# Altium integrated library Zilog Z8 Encore.IntLib: 188 symbols (part 5 of 5)
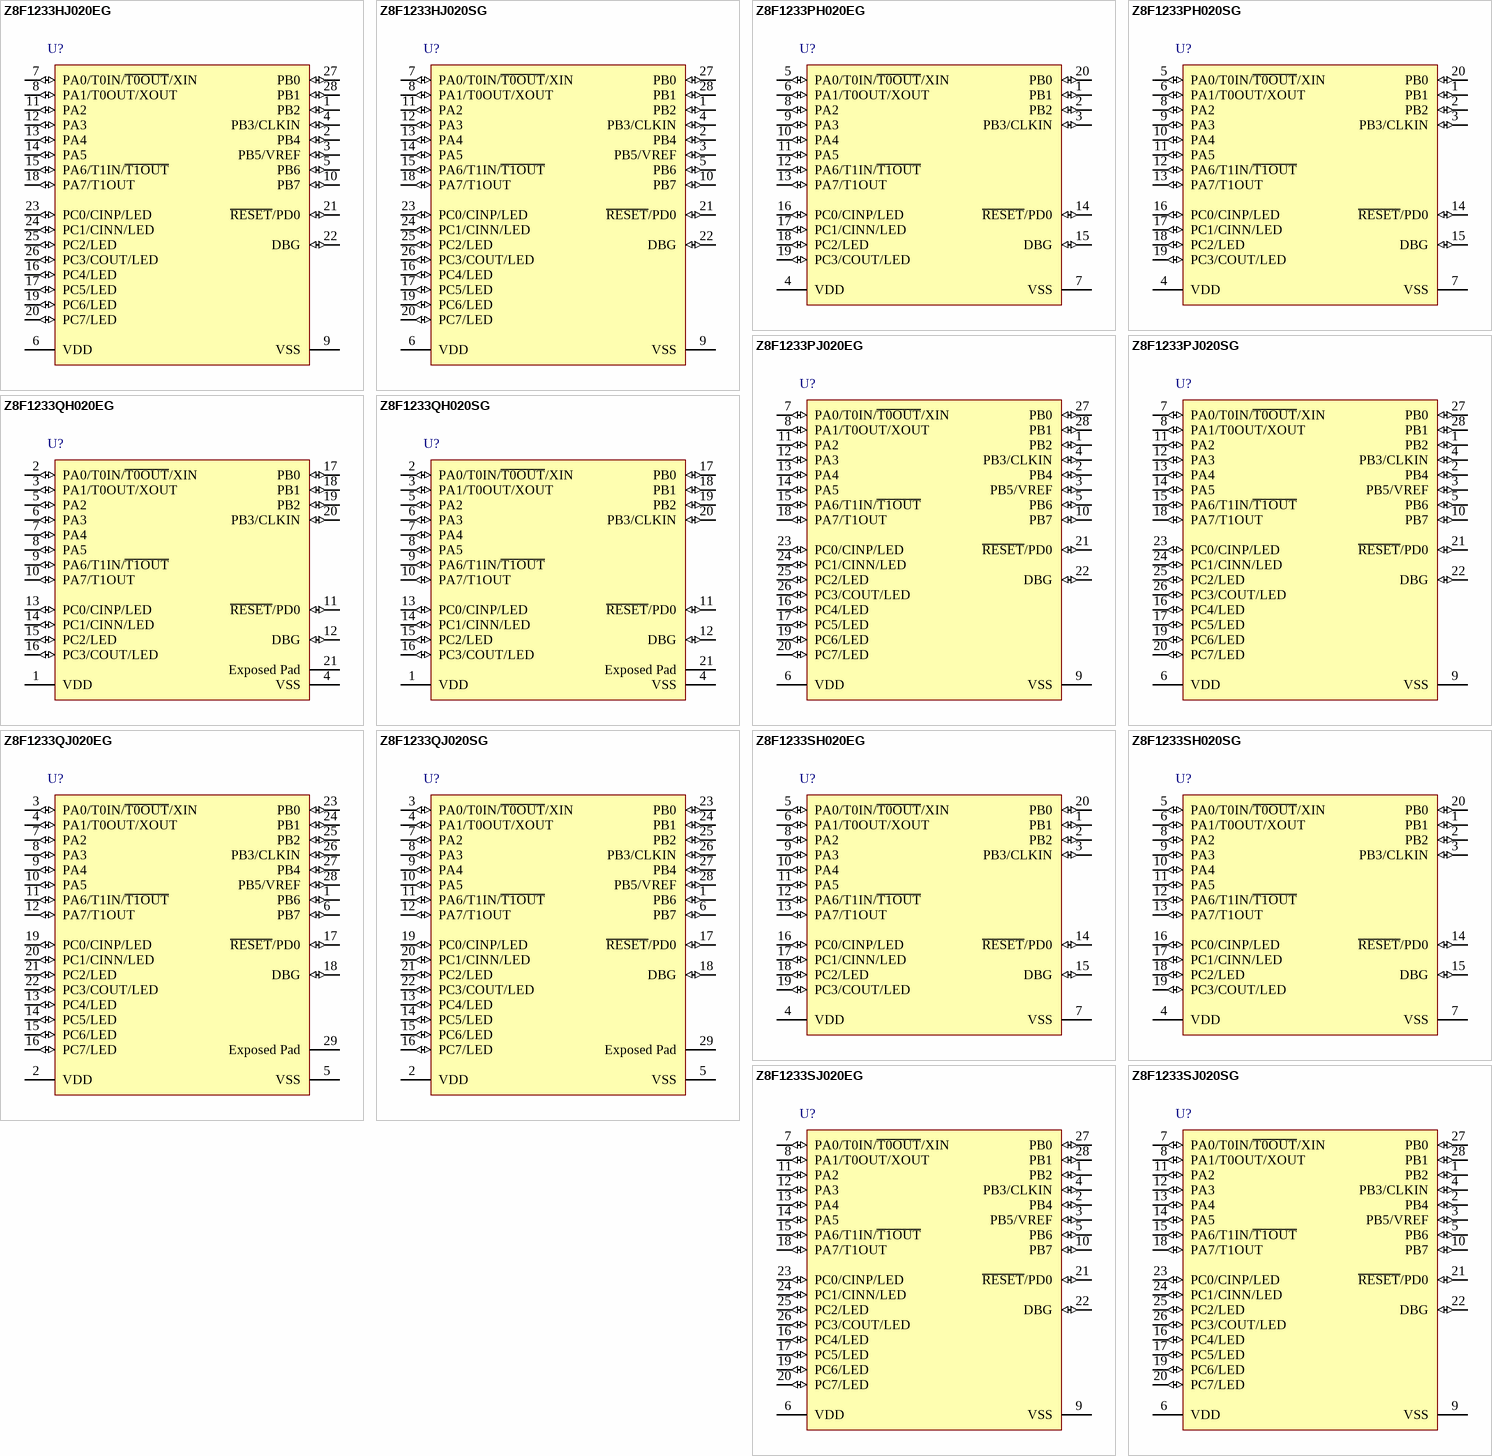
[diagram p15: symbols Z8F1233HJ020EG to Z8F1233SJ020SG]

## Z8F1233SH020EG
designator U?
Z8 Encore, F0830 Series, 12KB Flash RAM, 256B register RAM, 20-Pin SOIC, -40°C to 105°C, Pb-Free; DatasheetVersion: rev11, Dec-2007; PackageVersion: 1/12/2007; PackageReference: SOIC20; PackageDescription: 20-Pin Small Outline Integrated Circuit 1.27 mm Pitch; ComponentLink1Description: Manufacturer URL; ComponentLink1URL: http://www.zilog.com/
footprint SOIC20_N (SOIC, 20-Leads, Body 12.8x7.5mm, Pitch 1.27mm, IPC Medium Density)
footprint SOIC20_L (SOIC, 20-Leads, Body 12.8x7.5mm, Pitch 1.27mm, IPC High Density)
footprint SOIC20_M (SOIC, 20-Leads, Body 12.8x7.5mm, Pitch 1.27mm, IPC Low Density)
pins: 1 PB1 (io), 2 PB2 (io), 3 PB3/CLKIN (io), 4 VDD (power), 5 PA0/T0IN/~{T0OUT}/XIN (io), 6 PA1/T0OUT/XOUT (io), 7 VSS (power), 8 PA2 (io), 9 PA3 (io), 10 PA4 (io), 11 PA5 (io), 12 PA6/T1IN/~{T1OUT} (io), 13 PA7/T1OUT (io), 14 ~{RESET}/PD0 (io), 15 DBG (io), 16 PC0/CINP/LED (io), 17 PC1/CINN/LED (io), 18 PC2/LED (io), 19 PC3/COUT/LED (io), 20 PB0 (io)

## Z8F1233SH020SG
designator U?
Z8 Encore, F0830 Series, 12KB Flash RAM, 256B register RAM, 20-Pin SOIC, 0°C to 70°C, Pb-Free; DatasheetVersion: rev11, Dec-2007; PackageVersion: 1/12/2007; PackageReference: SOIC20; PackageDescription: 20-Pin Small Outline Integrated Circuit 1.27 mm Pitch; ComponentLink1Description: Manufacturer URL; ComponentLink1URL: http://www.zilog.com/
footprint SOIC20_N (SOIC, 20-Leads, Body 12.8x7.5mm, Pitch 1.27mm, IPC Medium Density)
footprint SOIC20_L (SOIC, 20-Leads, Body 12.8x7.5mm, Pitch 1.27mm, IPC High Density)
footprint SOIC20_M (SOIC, 20-Leads, Body 12.8x7.5mm, Pitch 1.27mm, IPC Low Density)
pins: 1 PB1 (io), 2 PB2 (io), 3 PB3/CLKIN (io), 4 VDD (power), 5 PA0/T0IN/~{T0OUT}/XIN (io), 6 PA1/T0OUT/XOUT (io), 7 VSS (power), 8 PA2 (io), 9 PA3 (io), 10 PA4 (io), 11 PA5 (io), 12 PA6/T1IN/~{T1OUT} (io), 13 PA7/T1OUT (io), 14 ~{RESET}/PD0 (io), 15 DBG (io), 16 PC0/CINP/LED (io), 17 PC1/CINN/LED (io), 18 PC2/LED (io), 19 PC3/COUT/LED (io), 20 PB0 (io)

## Z8F1233SJ020EG
designator U?
Z8 Encore, F0830 Series, 12KB Flash RAM, 256B register RAM, 28-Pin SOIC, -40°C to 105°C, Pb-Free; DatasheetVersion: rev11, Dec-2007; PackageVersion: 1/12/2007; PackageReference: SOIC28; PackageDescription: 28-Pin Small Outline Integrated Circuit 1.27 mm Pitch; ComponentLink1Description: Manufacturer URL; ComponentLink1URL: http://www.zilog.com/
footprint SOIC28_N (SOIC, 28-Leads, Body 17.9x7.5mm, Pitch 1.27mm, IPC Medium Density)
footprint SOIC28_L (SOIC, 28-Leads, Body 17.9x7.5mm, Pitch 1.27mm, IPC High Density)
footprint SOIC28_M (SOIC, 28-Leads, Body 17.9x7.5mm, Pitch 1.27mm, IPC Low Density)
pins: 1 PB2 (io), 2 PB4 (io), 3 PB5/VREF (io), 4 PB3/CLKIN (io), 5 PB6 (io), 6 VDD (power), 7 PA0/T0IN/~{T0OUT}/XIN (io), 8 PA1/T0OUT/XOUT (io), 9 VSS (power), 10 PB7 (io), 11 PA2 (io), 12 PA3 (io), 13 PA4 (io), 14 PA5 (io), 15 PA6/T1IN/~{T1OUT} (io), 16 PC4/LED (io), 17 PC5/LED (io), 18 PA7/T1OUT (io), 19 PC6/LED (io), 20 PC7/LED (io), 21 ~{RESET}/PD0 (io), 22 DBG (io), 23 PC0/CINP/LED (io), 24 PC1/CINN/LED (io), 25 PC2/LED (io), 26 PC3/COUT/LED (io), 27 PB0 (io), 28 PB1 (io)

## Z8F1233SJ020SG
designator U?
Z8 Encore, F0830 Series, 12KB Flash RAM, 256B register RAM, 28-Pin SOIC, 0°C to 70°C, Pb-Free; DatasheetVersion: rev11, Dec-2007; PackageVersion: 1/12/2007; PackageReference: SOIC28; PackageDescription: 28-Pin Small Outline Integrated Circuit 1.27 mm Pitch; ComponentLink1Description: Manufacturer URL; ComponentLink1URL: http://www.zilog.com/
footprint SOIC28_N (SOIC, 28-Leads, Body 17.9x7.5mm, Pitch 1.27mm, IPC Medium Density)
footprint SOIC28_L (SOIC, 28-Leads, Body 17.9x7.5mm, Pitch 1.27mm, IPC High Density)
footprint SOIC28_M (SOIC, 28-Leads, Body 17.9x7.5mm, Pitch 1.27mm, IPC Low Density)
pins: 1 PB2 (io), 2 PB4 (io), 3 PB5/VREF (io), 4 PB3/CLKIN (io), 5 PB6 (io), 6 VDD (power), 7 PA0/T0IN/~{T0OUT}/XIN (io), 8 PA1/T0OUT/XOUT (io), 9 VSS (power), 10 PB7 (io), 11 PA2 (io), 12 PA3 (io), 13 PA4 (io), 14 PA5 (io), 15 PA6/T1IN/~{T1OUT} (io), 16 PC4/LED (io), 17 PC5/LED (io), 18 PA7/T1OUT (io), 19 PC6/LED (io), 20 PC7/LED (io), 21 ~{RESET}/PD0 (io), 22 DBG (io), 23 PC0/CINP/LED (io), 24 PC1/CINN/LED (io), 25 PC2/LED (io), 26 PC3/COUT/LED (io), 27 PB0 (io), 28 PB1 (io)